# Altium integrated library BasovD_Lab02.IntLib: 4 symbols
Pins are listed as number, name and electrical type; pins without a type are passive.

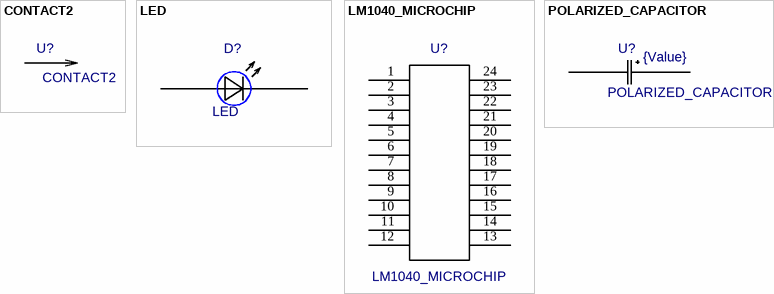
[diagram p0: symbols CONTACT2 to POLARIZED_CAPACITOR]

## CONTACT2
designator U?
Value: *
pins: 0

## LED
designator D?
Value: *
footprint LED
pins: 1, 2

## LM1040_MICROCHIP
designator U?
Value: *
footprint MICROCHIP
pins: 1, 2, 3, 4, 5, 6, 7, 8, 9, 10, 11, 12, 13, 14, 15, 16, 17, 18, 19, 20, 21, 22, 23, 24

## POLARIZED_CAPACITOR
designator U?  value {Value}
footprint POLARIZED_CAPACITOR
pins: 1 0, 2 0